# Altium schematic symbol library Standard Control Panel.SchLib: 6 symbols
Pins are listed as number, name and electrical type; pins without a type are passive.

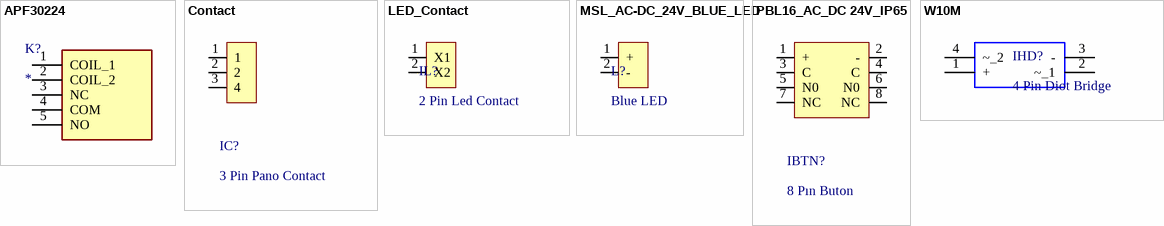
[diagram p0: symbols APF30224 to W10M]

## APF30224
designator K?
Relay or Contactor; Manufacturer_Name: Panasonic; Manufacturer_Part_Number: APF30224; Datasheet Link: https://static6.arrow.com/aropdfconversion/564973783a483b1a25a054c599f69554fab11ee1/mech_eng_pf.pdf; Height: 15mm; Mouser Part Number: 769-APF30224; Mouser Price/Stock: https://www.mouser.co.uk/ProductDetail/Panasonic-Industrial-Devices/APF30224?qs=A8E0mzn7BECIUk9yoZhBGw%3D%3D; Arrow Part Number: APF30224; Arrow Price/Stock: https://www.arrow.com/en/products/apf30224/panasonic?region=nac
footprint APF30224
pins: 1 COIL_1, 2 COIL_2, 3 NC, 4 COM, 5 NO

## Contact
designator IC?, comment 3 Pin Pano Contact
footprint Contact
footprint Contact
pins: 1, 2, 3 4

## LED_Contact
designator IL?, comment 2 Pin Led Contact
footprint LED_Contact
pins: 1 X1, 2 X2

## MSL_AC-DC_24V_BLUE_LED
designator L?, comment Blue LED
footprint MSL_AC-DC_24V_BLUE_LED
pins: 1 +, 2 -

## PBL16_AC_DC 24V_IP65
designator IBTN?, comment 8 Pın Buton
footprint 8_Pin_Buton
pins: 1 +, 2 -, 3 C, 4 C, 5 N0, 6 N0, 7 NC, 8 NC

## W10M
designator IHD?, comment 4 Pin Diot Bridge
footprint W10M
pins: 1 +, 2 ~_1, 3 -, 4 ~_2